# Altium integrated library XMOS xCORE General Purpose.IntLib: 46 symbols (part 4 of 4)
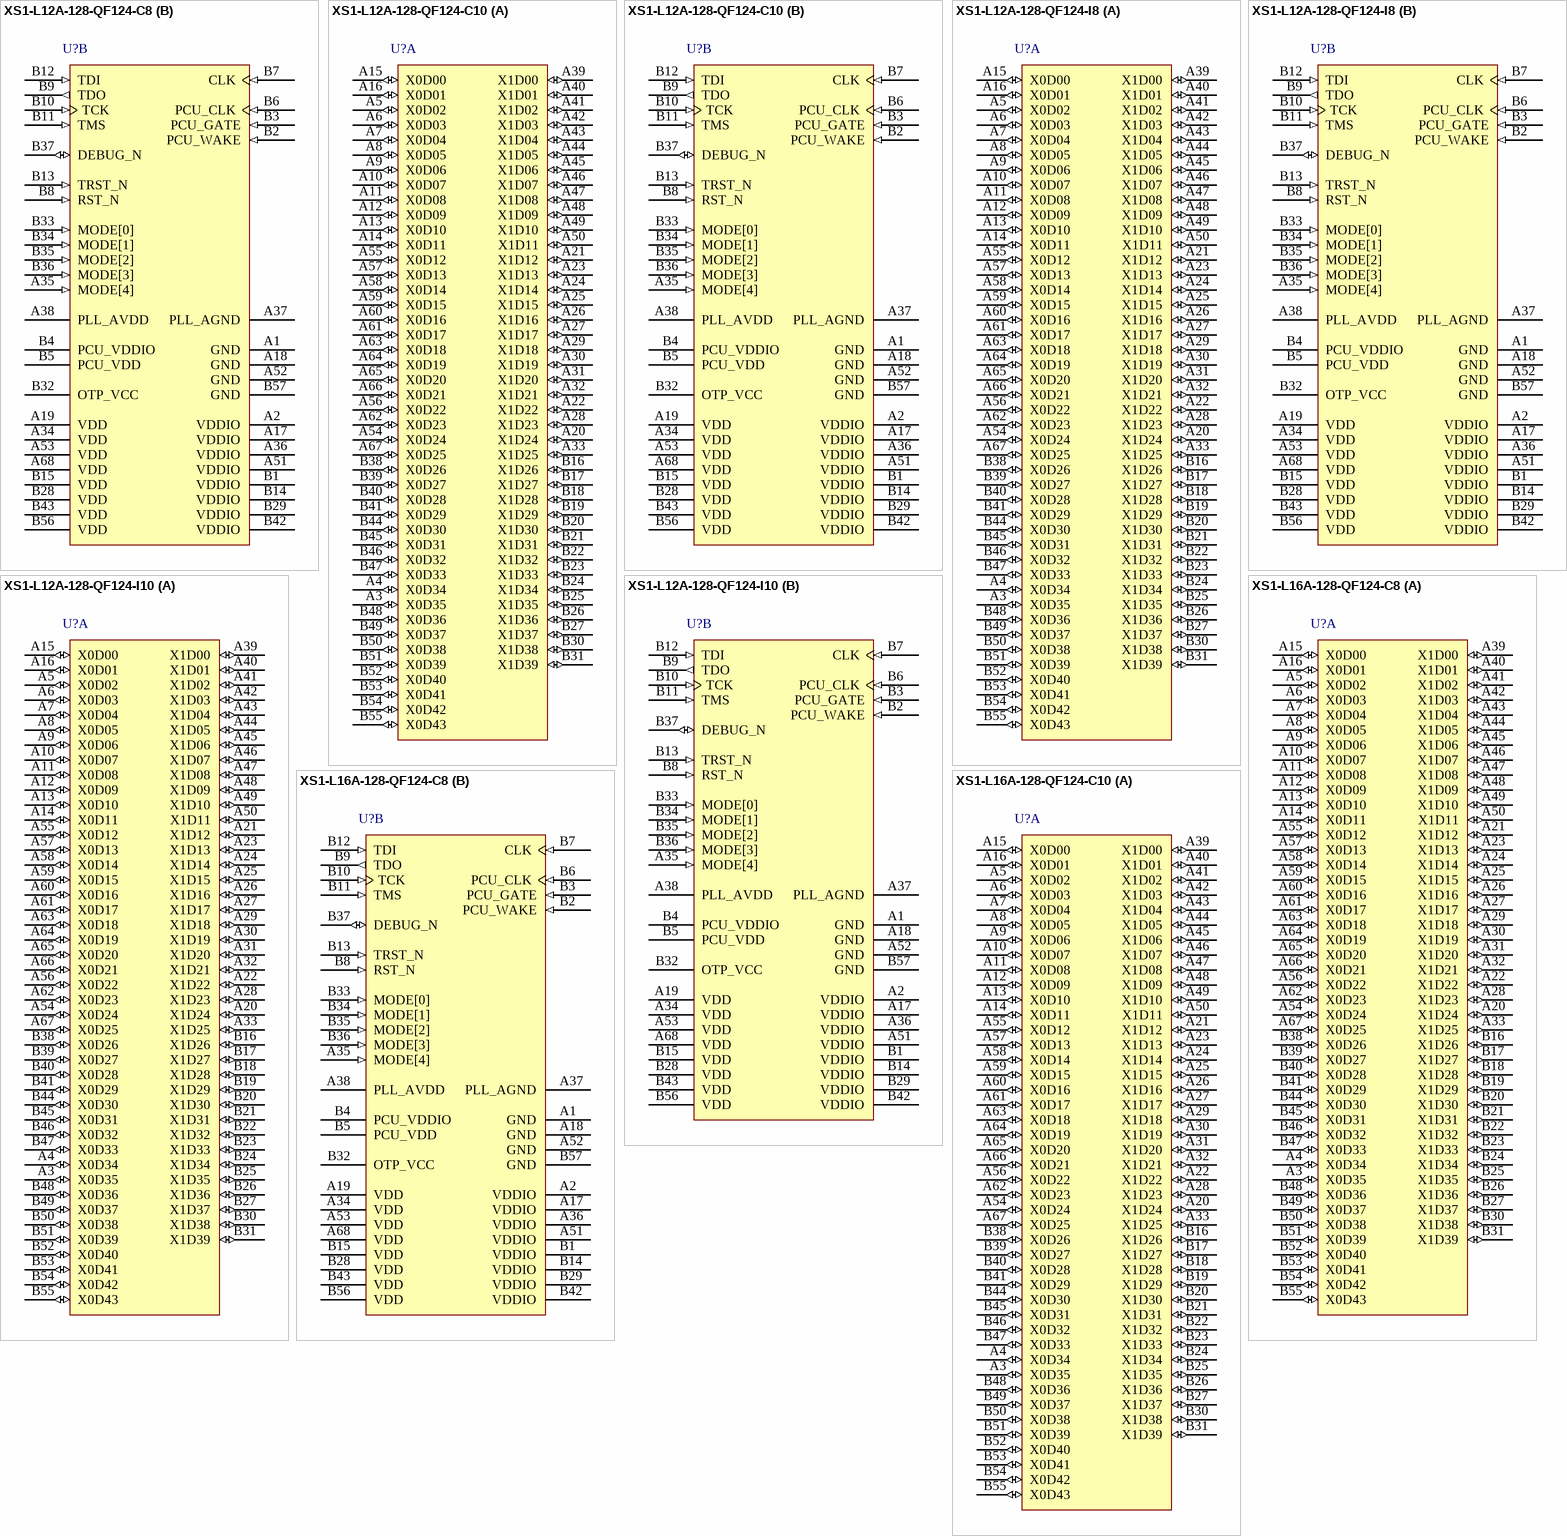
[diagram p13: symbols XS1-L12A-128-QF124-C8 to XS1-L16A-128-QF124-C10]

## XS1-L12A-128-QF124-C8
designator U?
12 Core XS1-L 32-bit Multicore Microcontroller, 84 I/O, 0 to 70 degC, 124-Pin QFN, Pb-Free, Tray; PartNumber: XS1-L12A-128-QF124-C8; Cores/Tiles: 12/2; I/O: 84; RAM: 128 kB; Speed Grade: 800 MIPS; DatasheetVersion: Rev. X7893; PackageReference: QFN-124; PackageDescription: 124-Pin Dual Row Quad Flat No Lead Package, Body 10 x 10 mm, Pitch 0.5 mm; Supplier 1: Digi-Key; Supplier Part Number 1: 880-1059-ND; Packing: Tray; Temperature Range: 0 to 70 degC; Mounting Technology: Surface Mount; ComponentLink1Description: Manufacturer URL; ComponentLink1URL: http://www.xmos.com/; ComponentLink2Description: Datasheet; ComponentLink2URL: https://www.xmos.com/zh/download/public/XS1-L12A-128-QF124-Datasheet(X7893C).pdf; ComponentLink3Description: Package Specification; ComponentLink3URL: https://www.xmos.com/zh/download/public/XS1-L16A-128-QF124-Datasheet%28X8006A%29.pdf
footprint XMOS-QFN-124_V (Double Row QFN, 124-Leads, Body 10.1x10.1mm, Pitch 0.5mm, Thermal Pad 2.8x2.8mm)
part A pins: A3 X0D35 (io), A4 X0D34 (io), A5 X0D02 (io), A6 X0D03 (io), A7 X0D04 (io), A8 X0D05 (io), A9 X0D06 (io), A10 X0D07 (io), A11 X0D08 (io), A12 X0D09 (io), A13 X0D10 (io), A14 X0D11 (io), A15 X0D00 (io), A16 X0D01 (io), A20 X1D24 (io), A21 X1D12 (io), A22 X1D22 (io), A23 X1D13 (io), A24 X1D14 (io), A25 X1D15 (io), A26 X1D16 (io), A27 X1D17 (io), A28 X1D23 (io), A29 X1D18 (io), A30 X1D19 (io), A31 X1D20 (io), A32 X1D21 (io), A33 X1D25 (io), A39 X1D00 (io), A40 X1D01 (io), A41 X1D02 (io), A42 X1D03 (io), A43 X1D04 (io), A44 X1D05 (io), A45 X1D06 (io), A46 X1D07 (io), A47 X1D08 (io), A48 X1D09 (io), A49 X1D10 (io), A50 X1D11 (io), A54 X0D24 (io), A55 X0D12 (io), A56 X0D22 (io), A57 X0D13 (io), A58 X0D14 (io), A59 X0D15 (io), A60 X0D16 (io), A61 X0D17 (io), A62 X0D23 (io), A63 X0D18 (io), A64 X0D19 (io), A65 X0D20 (io), A66 X0D21 (io), A67 X0D25 (io), B16 X1D26 (io), B17 X1D27 (io), B18 X1D28 (io), B19 X1D29 (io), B20 X1D30 (io), B21 X1D31 (io), B22 X1D32 (io), B23 X1D33 (io), B24 X1D34 (io), B25 X1D35 (io), B26 X1D36 (io), B27 X1D37 (io), B30 X1D38 (io), B31 X1D39 (io), B38 X0D26 (io), B39 X0D27 (io), B40 X0D28 (io), B41 X0D29 (io), B44 X0D30 (io), B45 X0D31 (io), B46 X0D32 (io), B47 X0D33 (io), B48 X0D36 (io), B49 X0D37 (io), B50 X0D38 (io), B51 X0D39 (io), B52 X0D40 (io), B53 X0D41 (io), B54 X0D42 (io), B55 X0D43 (io)
part B pins: A1 GND (power) "Digital ground", A2 VDDIO (power) "Digital I/O power", A17 VDDIO (power) "Digital I/O power", A18 GND (power) "Digital ground", A19 VDD (power) "Digital tile power", A34 VDD (power) "Digital tile power", A35 MODE[4] (in) "Boot mode select", A36 VDDIO (power) "Digital I/O power", A37 PLL_AGND (power) "Analog ground for PLL", A38 PLL_AVDD (power) "Analog PLL power", A51 VDDIO (power) "Digital I/O power", A52 GND (power) "Digital ground", A53 VDD (power) "Digital tile power", A68 VDD (power) "Digital tile power", B1 VDDIO (power) "Digital I/O power", B2 PCU_WAKE (in) "Wakeup reset", B3 PCU_GATE (in) "Power control gate control", B4 PCU_VDDIO (power) "PCU I/O supply", B5 PCU_VDD (power) "PCU tile power", B6 PCU_CLK (in) "Clock input", B7 CLK (in) "PLL reference clock", B8 RST_N (in) "Global reset input", B9 TDO (out) "Test data output", B10 TCK (in) "Test clock", B11 TMS (in) "Test mode select", B12 TDI (in) "Test data input", B13 TRST_N (in) "Test reset input", B14 VDDIO (power) "Digital I/O power", B15 VDD (power) "Digital tile power", B28 VDD (power) "Digital tile power", B29 VDDIO (power) "Digital I/O power", B32 OTP_VCC (power) "OTP power supply", B33 MODE[0] (in) "Boot mode select", B34 MODE[1] (in) "Boot mode select", B35 MODE[2] (in) "Boot mode select", B36 MODE[3] (in) "Boot mode select", B37 DEBUG_N (io) "Multi-chip debug", B42 VDDIO (power) "Digital I/O power", B43 VDD (power) "Digital tile power", B56 VDD (power) "Digital tile power", B57 GND (power) "Digital ground"

## XS1-L12A-128-QF124-C10
designator U?
12 Core XS1-L 32-bit Multicore Microcontroller, 84 I/O, 0 to 70 degC, 124-Pin QFN, Pb-Free, Tray; PartNumber: XS1-L12A-128-QF124-C10; Cores/Tiles: 12/2; I/O: 84; RAM: 128 kB; Speed Grade: 1000 MIPS; DatasheetVersion: Rev. X7893; PackageReference: QFN-124; PackageDescription: 124-Pin Dual Row Quad Flat No Lead Package, Body 10 x 10 mm, Pitch 0.5 mm; Supplier 1: Digi-Key; Supplier Part Number 1: 880-1053-ND; Supplier 2: Farnell; Supplier Part Number 2: 2356339; Supplier 3: Newark; Supplier Part Number 3: 07X2005; Packing: Tray; Temperature Range: 0 to 70 degC; Mounting Technology: Surface Mount; ComponentLink1Description: Manufacturer URL; ComponentLink1URL: http://www.xmos.com/; ComponentLink2Description: Datasheet; ComponentLink2URL: https://www.xmos.com/zh/download/public/XS1-L12A-128-QF124-Datasheet(X7893C).pdf; ComponentLink3Description: Package Specification; ComponentLink3URL: https://www.xmos.com/zh/download/public/XS1-L16A-128-QF124-Datasheet%28X8006A%29.pdf
footprint XMOS-QFN-124_V (Double Row QFN, 124-Leads, Body 10.1x10.1mm, Pitch 0.5mm, Thermal Pad 2.8x2.8mm)
part A pins: A3 X0D35 (io), A4 X0D34 (io), A5 X0D02 (io), A6 X0D03 (io), A7 X0D04 (io), A8 X0D05 (io), A9 X0D06 (io), A10 X0D07 (io), A11 X0D08 (io), A12 X0D09 (io), A13 X0D10 (io), A14 X0D11 (io), A15 X0D00 (io), A16 X0D01 (io), A20 X1D24 (io), A21 X1D12 (io), A22 X1D22 (io), A23 X1D13 (io), A24 X1D14 (io), A25 X1D15 (io), A26 X1D16 (io), A27 X1D17 (io), A28 X1D23 (io), A29 X1D18 (io), A30 X1D19 (io), A31 X1D20 (io), A32 X1D21 (io), A33 X1D25 (io), A39 X1D00 (io), A40 X1D01 (io), A41 X1D02 (io), A42 X1D03 (io), A43 X1D04 (io), A44 X1D05 (io), A45 X1D06 (io), A46 X1D07 (io), A47 X1D08 (io), A48 X1D09 (io), A49 X1D10 (io), A50 X1D11 (io), A54 X0D24 (io), A55 X0D12 (io), A56 X0D22 (io), A57 X0D13 (io), A58 X0D14 (io), A59 X0D15 (io), A60 X0D16 (io), A61 X0D17 (io), A62 X0D23 (io), A63 X0D18 (io), A64 X0D19 (io), A65 X0D20 (io), A66 X0D21 (io), A67 X0D25 (io), B16 X1D26 (io), B17 X1D27 (io), B18 X1D28 (io), B19 X1D29 (io), B20 X1D30 (io), B21 X1D31 (io), B22 X1D32 (io), B23 X1D33 (io), B24 X1D34 (io), B25 X1D35 (io), B26 X1D36 (io), B27 X1D37 (io), B30 X1D38 (io), B31 X1D39 (io), B38 X0D26 (io), B39 X0D27 (io), B40 X0D28 (io), B41 X0D29 (io), B44 X0D30 (io), B45 X0D31 (io), B46 X0D32 (io), B47 X0D33 (io), B48 X0D36 (io), B49 X0D37 (io), B50 X0D38 (io), B51 X0D39 (io), B52 X0D40 (io), B53 X0D41 (io), B54 X0D42 (io), B55 X0D43 (io)
part B pins: A1 GND (power) "Digital ground", A2 VDDIO (power) "Digital I/O power", A17 VDDIO (power) "Digital I/O power", A18 GND (power) "Digital ground", A19 VDD (power) "Digital tile power", A34 VDD (power) "Digital tile power", A35 MODE[4] (in) "Boot mode select", A36 VDDIO (power) "Digital I/O power", A37 PLL_AGND (power) "Analog ground for PLL", A38 PLL_AVDD (power) "Analog PLL power", A51 VDDIO (power) "Digital I/O power", A52 GND (power) "Digital ground", A53 VDD (power) "Digital tile power", A68 VDD (power) "Digital tile power", B1 VDDIO (power) "Digital I/O power", B2 PCU_WAKE (in) "Wakeup reset", B3 PCU_GATE (in) "Power control gate control", B4 PCU_VDDIO (power) "PCU I/O supply", B5 PCU_VDD (power) "PCU tile power", B6 PCU_CLK (in) "Clock input", B7 CLK (in) "PLL reference clock", B8 RST_N (in) "Global reset input", B9 TDO (out) "Test data output", B10 TCK (in) "Test clock", B11 TMS (in) "Test mode select", B12 TDI (in) "Test data input", B13 TRST_N (in) "Test reset input", B14 VDDIO (power) "Digital I/O power", B15 VDD (power) "Digital tile power", B28 VDD (power) "Digital tile power", B29 VDDIO (power) "Digital I/O power", B32 OTP_VCC (power) "OTP power supply", B33 MODE[0] (in) "Boot mode select", B34 MODE[1] (in) "Boot mode select", B35 MODE[2] (in) "Boot mode select", B36 MODE[3] (in) "Boot mode select", B37 DEBUG_N (io) "Multi-chip debug", B42 VDDIO (power) "Digital I/O power", B43 VDD (power) "Digital tile power", B56 VDD (power) "Digital tile power", B57 GND (power) "Digital ground"

## XS1-L12A-128-QF124-I8
designator U?
12 Core XS1-L 32-bit Multicore Microcontroller, 84 I/O, -40 to 85 degC, 124-Pin QFN, Pb-Free, Tray; PartNumber: XS1-L12A-128-QF124-I8; Cores/Tiles: 12/2; I/O: 84; RAM: 128 kB; Speed Grade: 800 MIPS; DatasheetVersion: Rev. X7893; PackageReference: QFN-124; PackageDescription: 124-Pin Dual Row Quad Flat No Lead Package, Body 10 x 10 mm, Pitch 0.5 mm; Supplier 1: Digi-Key; Supplier Part Number 1: XS1-L12A-128-QF124-I8-ND; Packing: Tray; Temperature Range: -40 to 85 degC; Mounting Technology: Surface Mount; ComponentLink1Description: Manufacturer URL; ComponentLink1URL: http://www.xmos.com/; ComponentLink2Description: Datasheet; ComponentLink2URL: https://www.xmos.com/zh/download/public/XS1-L12A-128-QF124-Datasheet(X7893C).pdf; ComponentLink3Description: Package Specification; ComponentLink3URL: https://www.xmos.com/zh/download/public/XS1-L16A-128-QF124-Datasheet%28X8006A%29.pdf
footprint XMOS-QFN-124_V (Double Row QFN, 124-Leads, Body 10.1x10.1mm, Pitch 0.5mm, Thermal Pad 2.8x2.8mm)
part A pins: A3 X0D35 (io), A4 X0D34 (io), A5 X0D02 (io), A6 X0D03 (io), A7 X0D04 (io), A8 X0D05 (io), A9 X0D06 (io), A10 X0D07 (io), A11 X0D08 (io), A12 X0D09 (io), A13 X0D10 (io), A14 X0D11 (io), A15 X0D00 (io), A16 X0D01 (io), A20 X1D24 (io), A21 X1D12 (io), A22 X1D22 (io), A23 X1D13 (io), A24 X1D14 (io), A25 X1D15 (io), A26 X1D16 (io), A27 X1D17 (io), A28 X1D23 (io), A29 X1D18 (io), A30 X1D19 (io), A31 X1D20 (io), A32 X1D21 (io), A33 X1D25 (io), A39 X1D00 (io), A40 X1D01 (io), A41 X1D02 (io), A42 X1D03 (io), A43 X1D04 (io), A44 X1D05 (io), A45 X1D06 (io), A46 X1D07 (io), A47 X1D08 (io), A48 X1D09 (io), A49 X1D10 (io), A50 X1D11 (io), A54 X0D24 (io), A55 X0D12 (io), A56 X0D22 (io), A57 X0D13 (io), A58 X0D14 (io), A59 X0D15 (io), A60 X0D16 (io), A61 X0D17 (io), A62 X0D23 (io), A63 X0D18 (io), A64 X0D19 (io), A65 X0D20 (io), A66 X0D21 (io), A67 X0D25 (io), B16 X1D26 (io), B17 X1D27 (io), B18 X1D28 (io), B19 X1D29 (io), B20 X1D30 (io), B21 X1D31 (io), B22 X1D32 (io), B23 X1D33 (io), B24 X1D34 (io), B25 X1D35 (io), B26 X1D36 (io), B27 X1D37 (io), B30 X1D38 (io), B31 X1D39 (io), B38 X0D26 (io), B39 X0D27 (io), B40 X0D28 (io), B41 X0D29 (io), B44 X0D30 (io), B45 X0D31 (io), B46 X0D32 (io), B47 X0D33 (io), B48 X0D36 (io), B49 X0D37 (io), B50 X0D38 (io), B51 X0D39 (io), B52 X0D40 (io), B53 X0D41 (io), B54 X0D42 (io), B55 X0D43 (io)
part B pins: A1 GND (power) "Digital ground", A2 VDDIO (power) "Digital I/O power", A17 VDDIO (power) "Digital I/O power", A18 GND (power) "Digital ground", A19 VDD (power) "Digital tile power", A34 VDD (power) "Digital tile power", A35 MODE[4] (in) "Boot mode select", A36 VDDIO (power) "Digital I/O power", A37 PLL_AGND (power) "Analog ground for PLL", A38 PLL_AVDD (power) "Analog PLL power", A51 VDDIO (power) "Digital I/O power", A52 GND (power) "Digital ground", A53 VDD (power) "Digital tile power", A68 VDD (power) "Digital tile power", B1 VDDIO (power) "Digital I/O power", B2 PCU_WAKE (in) "Wakeup reset", B3 PCU_GATE (in) "Power control gate control", B4 PCU_VDDIO (power) "PCU I/O supply", B5 PCU_VDD (power) "PCU tile power", B6 PCU_CLK (in) "Clock input", B7 CLK (in) "PLL reference clock", B8 RST_N (in) "Global reset input", B9 TDO (out) "Test data output", B10 TCK (in) "Test clock", B11 TMS (in) "Test mode select", B12 TDI (in) "Test data input", B13 TRST_N (in) "Test reset input", B14 VDDIO (power) "Digital I/O power", B15 VDD (power) "Digital tile power", B28 VDD (power) "Digital tile power", B29 VDDIO (power) "Digital I/O power", B32 OTP_VCC (power) "OTP power supply", B33 MODE[0] (in) "Boot mode select", B34 MODE[1] (in) "Boot mode select", B35 MODE[2] (in) "Boot mode select", B36 MODE[3] (in) "Boot mode select", B37 DEBUG_N (io) "Multi-chip debug", B42 VDDIO (power) "Digital I/O power", B43 VDD (power) "Digital tile power", B56 VDD (power) "Digital tile power", B57 GND (power) "Digital ground"

## XS1-L12A-128-QF124-I10
designator U?
12 Core XS1-L 32-bit Multicore Microcontroller, 84 I/O, -40 to 85 degC, 124-Pin QFN, Pb-Free, Tray; PartNumber: XS1-L12A-128-QF124-I10; Cores/Tiles: 12/2; I/O: 84; RAM: 128 kB; Speed Grade: 1000 MIPS; DatasheetVersion: Rev. X7893; PackageReference: QFN-124; PackageDescription: 124-Pin Dual Row Quad Flat No Lead Package, Body 10 x 10 mm, Pitch 0.5 mm; Supplier 1: Digi-Key; Supplier Part Number 1: XS1-L12A-128-QF124-I10-ND; Packing: Tray; Temperature Range: -40 to 85 degC; Mounting Technology: Surface Mount; ComponentLink1Description: Manufacturer URL; ComponentLink1URL: http://www.xmos.com/; ComponentLink2Description: Datasheet; ComponentLink2URL: https://www.xmos.com/zh/download/public/XS1-L12A-128-QF124-Datasheet(X7893C).pdf; ComponentLink3Description: Package Specification; ComponentLink3URL: https://www.xmos.com/zh/download/public/XS1-L16A-128-QF124-Datasheet%28X8006A%29.pdf
footprint XMOS-QFN-124_V (Double Row QFN, 124-Leads, Body 10.1x10.1mm, Pitch 0.5mm, Thermal Pad 2.8x2.8mm)
part A pins: A3 X0D35 (io), A4 X0D34 (io), A5 X0D02 (io), A6 X0D03 (io), A7 X0D04 (io), A8 X0D05 (io), A9 X0D06 (io), A10 X0D07 (io), A11 X0D08 (io), A12 X0D09 (io), A13 X0D10 (io), A14 X0D11 (io), A15 X0D00 (io), A16 X0D01 (io), A20 X1D24 (io), A21 X1D12 (io), A22 X1D22 (io), A23 X1D13 (io), A24 X1D14 (io), A25 X1D15 (io), A26 X1D16 (io), A27 X1D17 (io), A28 X1D23 (io), A29 X1D18 (io), A30 X1D19 (io), A31 X1D20 (io), A32 X1D21 (io), A33 X1D25 (io), A39 X1D00 (io), A40 X1D01 (io), A41 X1D02 (io), A42 X1D03 (io), A43 X1D04 (io), A44 X1D05 (io), A45 X1D06 (io), A46 X1D07 (io), A47 X1D08 (io), A48 X1D09 (io), A49 X1D10 (io), A50 X1D11 (io), A54 X0D24 (io), A55 X0D12 (io), A56 X0D22 (io), A57 X0D13 (io), A58 X0D14 (io), A59 X0D15 (io), A60 X0D16 (io), A61 X0D17 (io), A62 X0D23 (io), A63 X0D18 (io), A64 X0D19 (io), A65 X0D20 (io), A66 X0D21 (io), A67 X0D25 (io), B16 X1D26 (io), B17 X1D27 (io), B18 X1D28 (io), B19 X1D29 (io), B20 X1D30 (io), B21 X1D31 (io), B22 X1D32 (io), B23 X1D33 (io), B24 X1D34 (io), B25 X1D35 (io), B26 X1D36 (io), B27 X1D37 (io), B30 X1D38 (io), B31 X1D39 (io), B38 X0D26 (io), B39 X0D27 (io), B40 X0D28 (io), B41 X0D29 (io), B44 X0D30 (io), B45 X0D31 (io), B46 X0D32 (io), B47 X0D33 (io), B48 X0D36 (io), B49 X0D37 (io), B50 X0D38 (io), B51 X0D39 (io), B52 X0D40 (io), B53 X0D41 (io), B54 X0D42 (io), B55 X0D43 (io)
part B pins: A1 GND (power) "Digital ground", A2 VDDIO (power) "Digital I/O power", A17 VDDIO (power) "Digital I/O power", A18 GND (power) "Digital ground", A19 VDD (power) "Digital tile power", A34 VDD (power) "Digital tile power", A35 MODE[4] (in) "Boot mode select", A36 VDDIO (power) "Digital I/O power", A37 PLL_AGND (power) "Analog ground for PLL", A38 PLL_AVDD (power) "Analog PLL power", A51 VDDIO (power) "Digital I/O power", A52 GND (power) "Digital ground", A53 VDD (power) "Digital tile power", A68 VDD (power) "Digital tile power", B1 VDDIO (power) "Digital I/O power", B2 PCU_WAKE (in) "Wakeup reset", B3 PCU_GATE (in) "Power control gate control", B4 PCU_VDDIO (power) "PCU I/O supply", B5 PCU_VDD (power) "PCU tile power", B6 PCU_CLK (in) "Clock input", B7 CLK (in) "PLL reference clock", B8 RST_N (in) "Global reset input", B9 TDO (out) "Test data output", B10 TCK (in) "Test clock", B11 TMS (in) "Test mode select", B12 TDI (in) "Test data input", B13 TRST_N (in) "Test reset input", B14 VDDIO (power) "Digital I/O power", B15 VDD (power) "Digital tile power", B28 VDD (power) "Digital tile power", B29 VDDIO (power) "Digital I/O power", B32 OTP_VCC (power) "OTP power supply", B33 MODE[0] (in) "Boot mode select", B34 MODE[1] (in) "Boot mode select", B35 MODE[2] (in) "Boot mode select", B36 MODE[3] (in) "Boot mode select", B37 DEBUG_N (io) "Multi-chip debug", B42 VDDIO (power) "Digital I/O power", B43 VDD (power) "Digital tile power", B56 VDD (power) "Digital tile power", B57 GND (power) "Digital ground"

## XS1-L16A-128-QF124-C8
designator U?
16 Core XS1-L 32-bit Multicore Microcontroller, 84 I/O, 0 to 70 degC, 124-Pin QFN, Pb-Free, Tray; PartNumber: XS1-L16A-128-QF124-C8; Cores/Tiles: 16/2; I/O: 84; RAM: 128 kB; Speed Grade: 800 MIPS; DatasheetVersion: Rev. X8006; PackageReference: QFN-124; PackageDescription: 124-Pin Dual Row Quad Flat No Lead Package, Body 10 x 10 mm, Pitch 0.5 mm; Supplier 1: Digi-Key; Supplier Part Number 1: 880-1004-ND; Packing: Tray; Temperature Range: 0 to 70 degC; Mounting Technology: Surface Mount; ComponentLink1Description: Manufacturer URL; ComponentLink1URL: http://www.xmos.com/; ComponentLink2Description: Datasheet; ComponentLink2URL: https://www.xmos.com/zh/download/public/XS1-L16A-128-QF124-Datasheet(X8006A).pdf; ComponentLink3Description: Package Specification; ComponentLink3URL: https://www.xmos.com/zh/download/public/XS1-L16A-128-QF124-Datasheet%28X8006A%29.pdf
footprint XMOS-QFN-124_V (Double Row QFN, 124-Leads, Body 10.1x10.1mm, Pitch 0.5mm, Thermal Pad 2.8x2.8mm)
part A pins: A3 X0D35 (io), A4 X0D34 (io), A5 X0D02 (io), A6 X0D03 (io), A7 X0D04 (io), A8 X0D05 (io), A9 X0D06 (io), A10 X0D07 (io), A11 X0D08 (io), A12 X0D09 (io), A13 X0D10 (io), A14 X0D11 (io), A15 X0D00 (io), A16 X0D01 (io), A20 X1D24 (io), A21 X1D12 (io), A22 X1D22 (io), A23 X1D13 (io), A24 X1D14 (io), A25 X1D15 (io), A26 X1D16 (io), A27 X1D17 (io), A28 X1D23 (io), A29 X1D18 (io), A30 X1D19 (io), A31 X1D20 (io), A32 X1D21 (io), A33 X1D25 (io), A39 X1D00 (io), A40 X1D01 (io), A41 X1D02 (io), A42 X1D03 (io), A43 X1D04 (io), A44 X1D05 (io), A45 X1D06 (io), A46 X1D07 (io), A47 X1D08 (io), A48 X1D09 (io), A49 X1D10 (io), A50 X1D11 (io), A54 X0D24 (io), A55 X0D12 (io), A56 X0D22 (io), A57 X0D13 (io), A58 X0D14 (io), A59 X0D15 (io), A60 X0D16 (io), A61 X0D17 (io), A62 X0D23 (io), A63 X0D18 (io), A64 X0D19 (io), A65 X0D20 (io), A66 X0D21 (io), A67 X0D25 (io), B16 X1D26 (io), B17 X1D27 (io), B18 X1D28 (io), B19 X1D29 (io), B20 X1D30 (io), B21 X1D31 (io), B22 X1D32 (io), B23 X1D33 (io), B24 X1D34 (io), B25 X1D35 (io), B26 X1D36 (io), B27 X1D37 (io), B30 X1D38 (io), B31 X1D39 (io), B38 X0D26 (io), B39 X0D27 (io), B40 X0D28 (io), B41 X0D29 (io), B44 X0D30 (io), B45 X0D31 (io), B46 X0D32 (io), B47 X0D33 (io), B48 X0D36 (io), B49 X0D37 (io), B50 X0D38 (io), B51 X0D39 (io), B52 X0D40 (io), B53 X0D41 (io), B54 X0D42 (io), B55 X0D43 (io)
part B pins: A1 GND (power) "Digital ground", A2 VDDIO (power) "Digital I/O power", A17 VDDIO (power) "Digital I/O power", A18 GND (power) "Digital ground", A19 VDD (power) "Digital tile power", A34 VDD (power) "Digital tile power", A35 MODE[4] (in) "Boot mode select", A36 VDDIO (power) "Digital I/O power", A37 PLL_AGND (power) "Analog ground for PLL", A38 PLL_AVDD (power) "Analog PLL power", A51 VDDIO (power) "Digital I/O power", A52 GND (power) "Digital ground", A53 VDD (power) "Digital tile power", A68 VDD (power) "Digital tile power", B1 VDDIO (power) "Digital I/O power", B2 PCU_WAKE (in) "Wakeup reset", B3 PCU_GATE (in) "Power control gate control", B4 PCU_VDDIO (power) "PCU I/O supply", B5 PCU_VDD (power) "PCU tile power", B6 PCU_CLK (in) "Clock input", B7 CLK (in) "PLL reference clock", B8 RST_N (in) "Global reset input", B9 TDO (out) "Test data output", B10 TCK (in) "Test clock", B11 TMS (in) "Test mode select", B12 TDI (in) "Test data input", B13 TRST_N (in) "Test reset input", B14 VDDIO (power) "Digital I/O power", B15 VDD (power) "Digital tile power", B28 VDD (power) "Digital tile power", B29 VDDIO (power) "Digital I/O power", B32 OTP_VCC (power) "OTP power supply", B33 MODE[0] (in) "Boot mode select", B34 MODE[1] (in) "Boot mode select", B35 MODE[2] (in) "Boot mode select", B36 MODE[3] (in) "Boot mode select", B37 DEBUG_N (io) "Multi-chip debug", B42 VDDIO (power) "Digital I/O power", B43 VDD (power) "Digital tile power", B56 VDD (power) "Digital tile power", B57 GND (power) "Digital ground"

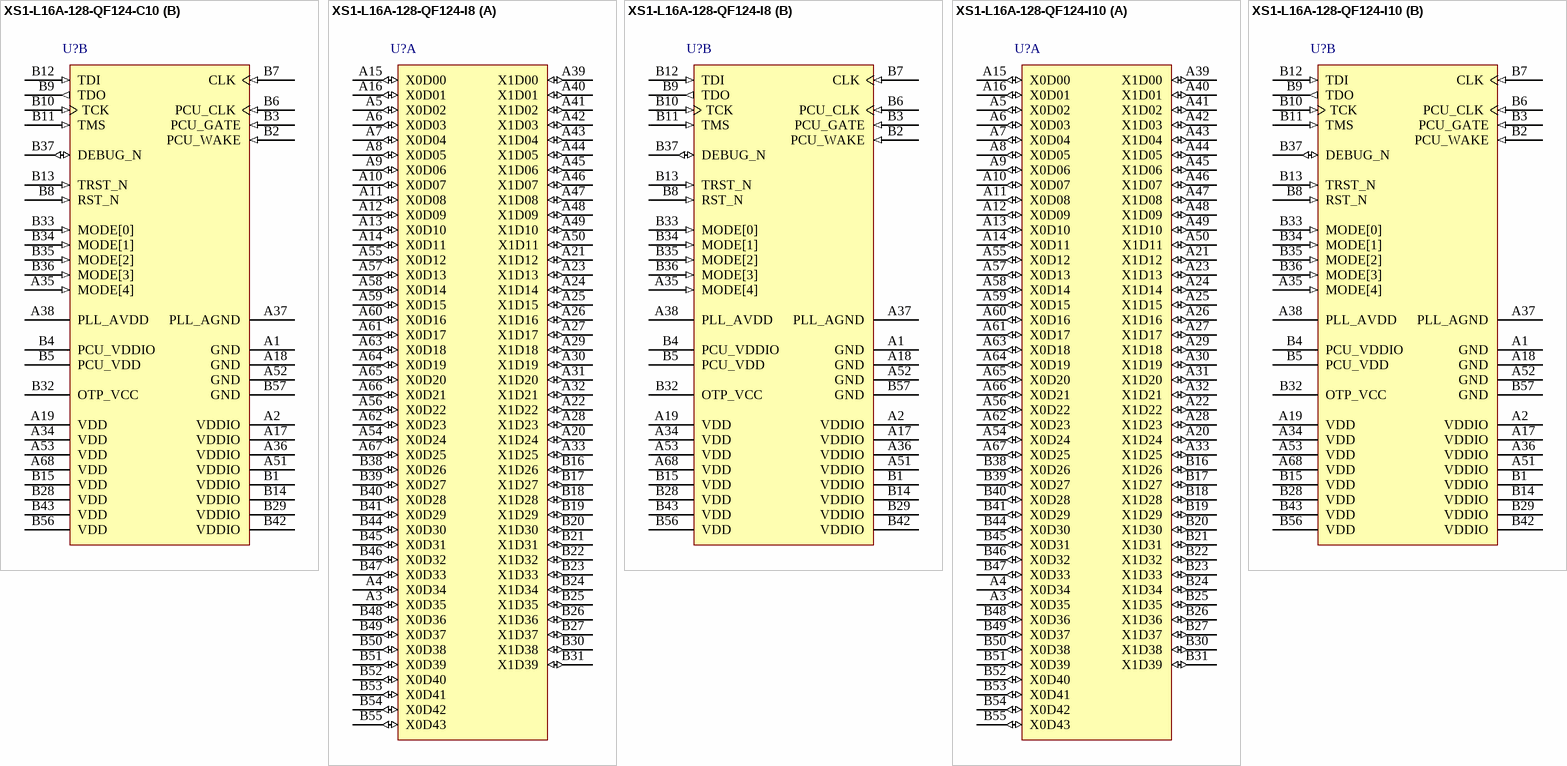
[diagram p10: symbols XS1-L16A-128-QF124-C10 to XS1-L16A-128-QF124-I10]

## XS1-L16A-128-QF124-C10
designator U?
16 Core XS1-L 32-bit Multicore Microcontroller, 84 I/O, 0 to 70 degC, 124-Pin QFN, Pb-Free, Tray; PartNumber: XS1-L16A-128-QF124-C10; Cores/Tiles: 16/2; I/O: 84; RAM: 128 kB; Speed Grade: 1000 MIPS; DatasheetVersion: Rev. X8006; PackageReference: QFN-124; PackageDescription: 124-Pin Dual Row Quad Flat No Lead Package, Body 10 x 10 mm, Pitch 0.5 mm; Supplier 1: Digi-Key; Supplier Part Number 1: 880-1020-ND; Supplier 2: Farnell; Supplier Part Number 2: 2356341; Supplier 3: Newark; Supplier Part Number 3: 07X2006; Packing: Tray; Temperature Range: 0 to 70 degC; Mounting Technology: Surface Mount; ComponentLink1Description: Manufacturer URL; ComponentLink1URL: http://www.xmos.com/; ComponentLink2Description: Datasheet; ComponentLink2URL: https://www.xmos.com/zh/download/public/XS1-L16A-128-QF124-Datasheet(X8006A).pdf; ComponentLink3Description: Package Specification; ComponentLink3URL: https://www.xmos.com/zh/download/public/XS1-L16A-128-QF124-Datasheet%28X8006A%29.pdf
footprint XMOS-QFN-124_V (Double Row QFN, 124-Leads, Body 10.1x10.1mm, Pitch 0.5mm, Thermal Pad 2.8x2.8mm)
part A pins: A3 X0D35 (io), A4 X0D34 (io), A5 X0D02 (io), A6 X0D03 (io), A7 X0D04 (io), A8 X0D05 (io), A9 X0D06 (io), A10 X0D07 (io), A11 X0D08 (io), A12 X0D09 (io), A13 X0D10 (io), A14 X0D11 (io), A15 X0D00 (io), A16 X0D01 (io), A20 X1D24 (io), A21 X1D12 (io), A22 X1D22 (io), A23 X1D13 (io), A24 X1D14 (io), A25 X1D15 (io), A26 X1D16 (io), A27 X1D17 (io), A28 X1D23 (io), A29 X1D18 (io), A30 X1D19 (io), A31 X1D20 (io), A32 X1D21 (io), A33 X1D25 (io), A39 X1D00 (io), A40 X1D01 (io), A41 X1D02 (io), A42 X1D03 (io), A43 X1D04 (io), A44 X1D05 (io), A45 X1D06 (io), A46 X1D07 (io), A47 X1D08 (io), A48 X1D09 (io), A49 X1D10 (io), A50 X1D11 (io), A54 X0D24 (io), A55 X0D12 (io), A56 X0D22 (io), A57 X0D13 (io), A58 X0D14 (io), A59 X0D15 (io), A60 X0D16 (io), A61 X0D17 (io), A62 X0D23 (io), A63 X0D18 (io), A64 X0D19 (io), A65 X0D20 (io), A66 X0D21 (io), A67 X0D25 (io), B16 X1D26 (io), B17 X1D27 (io), B18 X1D28 (io), B19 X1D29 (io), B20 X1D30 (io), B21 X1D31 (io), B22 X1D32 (io), B23 X1D33 (io), B24 X1D34 (io), B25 X1D35 (io), B26 X1D36 (io), B27 X1D37 (io), B30 X1D38 (io), B31 X1D39 (io), B38 X0D26 (io), B39 X0D27 (io), B40 X0D28 (io), B41 X0D29 (io), B44 X0D30 (io), B45 X0D31 (io), B46 X0D32 (io), B47 X0D33 (io), B48 X0D36 (io), B49 X0D37 (io), B50 X0D38 (io), B51 X0D39 (io), B52 X0D40 (io), B53 X0D41 (io), B54 X0D42 (io), B55 X0D43 (io)
part B pins: A1 GND (power) "Digital ground", A2 VDDIO (power) "Digital I/O power", A17 VDDIO (power) "Digital I/O power", A18 GND (power) "Digital ground", A19 VDD (power) "Digital tile power", A34 VDD (power) "Digital tile power", A35 MODE[4] (in) "Boot mode select", A36 VDDIO (power) "Digital I/O power", A37 PLL_AGND (power) "Analog ground for PLL", A38 PLL_AVDD (power) "Analog PLL power", A51 VDDIO (power) "Digital I/O power", A52 GND (power) "Digital ground", A53 VDD (power) "Digital tile power", A68 VDD (power) "Digital tile power", B1 VDDIO (power) "Digital I/O power", B2 PCU_WAKE (in) "Wakeup reset", B3 PCU_GATE (in) "Power control gate control", B4 PCU_VDDIO (power) "PCU I/O supply", B5 PCU_VDD (power) "PCU tile power", B6 PCU_CLK (in) "Clock input", B7 CLK (in) "PLL reference clock", B8 RST_N (in) "Global reset input", B9 TDO (out) "Test data output", B10 TCK (in) "Test clock", B11 TMS (in) "Test mode select", B12 TDI (in) "Test data input", B13 TRST_N (in) "Test reset input", B14 VDDIO (power) "Digital I/O power", B15 VDD (power) "Digital tile power", B28 VDD (power) "Digital tile power", B29 VDDIO (power) "Digital I/O power", B32 OTP_VCC (power) "OTP power supply", B33 MODE[0] (in) "Boot mode select", B34 MODE[1] (in) "Boot mode select", B35 MODE[2] (in) "Boot mode select", B36 MODE[3] (in) "Boot mode select", B37 DEBUG_N (io) "Multi-chip debug", B42 VDDIO (power) "Digital I/O power", B43 VDD (power) "Digital tile power", B56 VDD (power) "Digital tile power", B57 GND (power) "Digital ground"

## XS1-L16A-128-QF124-I8
designator U?
16 Core XS1-L 32-bit Multicore Microcontroller, 84 I/O, -40 to 85 degC, 124-Pin QFN, Pb-Free, Tray; PartNumber: XS1-L16A-128-QF124-I8; Cores/Tiles: 16/2; I/O: 84; RAM: 128 kB; Speed Grade: 800 MIPS; DatasheetVersion: Rev. X8006; PackageReference: QFN-124; PackageDescription: 124-Pin Dual Row Quad Flat No Lead Package, Body 10 x 10 mm, Pitch 0.5 mm; Supplier 1: Digi-Key; Supplier Part Number 1: 880-1005-ND; Packing: Tray; Temperature Range: -40 to 85 degC; Mounting Technology: Surface Mount; ComponentLink1Description: Manufacturer URL; ComponentLink1URL: http://www.xmos.com/; ComponentLink2Description: Datasheet; ComponentLink2URL: https://www.xmos.com/zh/download/public/XS1-L16A-128-QF124-Datasheet(X8006A).pdf; ComponentLink3Description: Package Specification; ComponentLink3URL: https://www.xmos.com/zh/download/public/XS1-L16A-128-QF124-Datasheet%28X8006A%29.pdf
footprint XMOS-QFN-124_V (Double Row QFN, 124-Leads, Body 10.1x10.1mm, Pitch 0.5mm, Thermal Pad 2.8x2.8mm)
part A pins: A3 X0D35 (io), A4 X0D34 (io), A5 X0D02 (io), A6 X0D03 (io), A7 X0D04 (io), A8 X0D05 (io), A9 X0D06 (io), A10 X0D07 (io), A11 X0D08 (io), A12 X0D09 (io), A13 X0D10 (io), A14 X0D11 (io), A15 X0D00 (io), A16 X0D01 (io), A20 X1D24 (io), A21 X1D12 (io), A22 X1D22 (io), A23 X1D13 (io), A24 X1D14 (io), A25 X1D15 (io), A26 X1D16 (io), A27 X1D17 (io), A28 X1D23 (io), A29 X1D18 (io), A30 X1D19 (io), A31 X1D20 (io), A32 X1D21 (io), A33 X1D25 (io), A39 X1D00 (io), A40 X1D01 (io), A41 X1D02 (io), A42 X1D03 (io), A43 X1D04 (io), A44 X1D05 (io), A45 X1D06 (io), A46 X1D07 (io), A47 X1D08 (io), A48 X1D09 (io), A49 X1D10 (io), A50 X1D11 (io), A54 X0D24 (io), A55 X0D12 (io), A56 X0D22 (io), A57 X0D13 (io), A58 X0D14 (io), A59 X0D15 (io), A60 X0D16 (io), A61 X0D17 (io), A62 X0D23 (io), A63 X0D18 (io), A64 X0D19 (io), A65 X0D20 (io), A66 X0D21 (io), A67 X0D25 (io), B16 X1D26 (io), B17 X1D27 (io), B18 X1D28 (io), B19 X1D29 (io), B20 X1D30 (io), B21 X1D31 (io), B22 X1D32 (io), B23 X1D33 (io), B24 X1D34 (io), B25 X1D35 (io), B26 X1D36 (io), B27 X1D37 (io), B30 X1D38 (io), B31 X1D39 (io), B38 X0D26 (io), B39 X0D27 (io), B40 X0D28 (io), B41 X0D29 (io), B44 X0D30 (io), B45 X0D31 (io), B46 X0D32 (io), B47 X0D33 (io), B48 X0D36 (io), B49 X0D37 (io), B50 X0D38 (io), B51 X0D39 (io), B52 X0D40 (io), B53 X0D41 (io), B54 X0D42 (io), B55 X0D43 (io)
part B pins: A1 GND (power) "Digital ground", A2 VDDIO (power) "Digital I/O power", A17 VDDIO (power) "Digital I/O power", A18 GND (power) "Digital ground", A19 VDD (power) "Digital tile power", A34 VDD (power) "Digital tile power", A35 MODE[4] (in) "Boot mode select", A36 VDDIO (power) "Digital I/O power", A37 PLL_AGND (power) "Analog ground for PLL", A38 PLL_AVDD (power) "Analog PLL power", A51 VDDIO (power) "Digital I/O power", A52 GND (power) "Digital ground", A53 VDD (power) "Digital tile power", A68 VDD (power) "Digital tile power", B1 VDDIO (power) "Digital I/O power", B2 PCU_WAKE (in) "Wakeup reset", B3 PCU_GATE (in) "Power control gate control", B4 PCU_VDDIO (power) "PCU I/O supply", B5 PCU_VDD (power) "PCU tile power", B6 PCU_CLK (in) "Clock input", B7 CLK (in) "PLL reference clock", B8 RST_N (in) "Global reset input", B9 TDO (out) "Test data output", B10 TCK (in) "Test clock", B11 TMS (in) "Test mode select", B12 TDI (in) "Test data input", B13 TRST_N (in) "Test reset input", B14 VDDIO (power) "Digital I/O power", B15 VDD (power) "Digital tile power", B28 VDD (power) "Digital tile power", B29 VDDIO (power) "Digital I/O power", B32 OTP_VCC (power) "OTP power supply", B33 MODE[0] (in) "Boot mode select", B34 MODE[1] (in) "Boot mode select", B35 MODE[2] (in) "Boot mode select", B36 MODE[3] (in) "Boot mode select", B37 DEBUG_N (io) "Multi-chip debug", B42 VDDIO (power) "Digital I/O power", B43 VDD (power) "Digital tile power", B56 VDD (power) "Digital tile power", B57 GND (power) "Digital ground"

## XS1-L16A-128-QF124-I10
designator U?
16 Core XS1-L 32-bit Multicore Microcontroller, 84 I/O, -40 to 85 degC, 124-Pin QFN, Pb-Free, Tray; PartNumber: XS1-L16A-128-QF124-I10; Cores/Tiles: 16/2; I/O: 84; RAM: 128 kB; Speed Grade: 1000 MIPS; DatasheetVersion: Rev. X8006; PackageReference: QFN-124; PackageDescription: 124-Pin Dual Row Quad Flat No Lead Package, Body 10 x 10 mm, Pitch 0.5 mm; Supplier 1: Digi-Key; Supplier Part Number 1: 880-1031-ND; Packing: Tray; Temperature Range: -40 to 85 degC; Mounting Technology: Surface Mount; ComponentLink1Description: Manufacturer URL; ComponentLink1URL: http://www.xmos.com/; ComponentLink2Description: Datasheet; ComponentLink2URL: https://www.xmos.com/zh/download/public/XS1-L16A-128-QF124-Datasheet(X8006A).pdf; ComponentLink3Description: Package Specification; ComponentLink3URL: https://www.xmos.com/zh/download/public/XS1-L16A-128-QF124-Datasheet%28X8006A%29.pdf
footprint XMOS-QFN-124_V (Double Row QFN, 124-Leads, Body 10.1x10.1mm, Pitch 0.5mm, Thermal Pad 2.8x2.8mm)
part A pins: A3 X0D35 (io), A4 X0D34 (io), A5 X0D02 (io), A6 X0D03 (io), A7 X0D04 (io), A8 X0D05 (io), A9 X0D06 (io), A10 X0D07 (io), A11 X0D08 (io), A12 X0D09 (io), A13 X0D10 (io), A14 X0D11 (io), A15 X0D00 (io), A16 X0D01 (io), A20 X1D24 (io), A21 X1D12 (io), A22 X1D22 (io), A23 X1D13 (io), A24 X1D14 (io), A25 X1D15 (io), A26 X1D16 (io), A27 X1D17 (io), A28 X1D23 (io), A29 X1D18 (io), A30 X1D19 (io), A31 X1D20 (io), A32 X1D21 (io), A33 X1D25 (io), A39 X1D00 (io), A40 X1D01 (io), A41 X1D02 (io), A42 X1D03 (io), A43 X1D04 (io), A44 X1D05 (io), A45 X1D06 (io), A46 X1D07 (io), A47 X1D08 (io), A48 X1D09 (io), A49 X1D10 (io), A50 X1D11 (io), A54 X0D24 (io), A55 X0D12 (io), A56 X0D22 (io), A57 X0D13 (io), A58 X0D14 (io), A59 X0D15 (io), A60 X0D16 (io), A61 X0D17 (io), A62 X0D23 (io), A63 X0D18 (io), A64 X0D19 (io), A65 X0D20 (io), A66 X0D21 (io), A67 X0D25 (io), B16 X1D26 (io), B17 X1D27 (io), B18 X1D28 (io), B19 X1D29 (io), B20 X1D30 (io), B21 X1D31 (io), B22 X1D32 (io), B23 X1D33 (io), B24 X1D34 (io), B25 X1D35 (io), B26 X1D36 (io), B27 X1D37 (io), B30 X1D38 (io), B31 X1D39 (io), B38 X0D26 (io), B39 X0D27 (io), B40 X0D28 (io), B41 X0D29 (io), B44 X0D30 (io), B45 X0D31 (io), B46 X0D32 (io), B47 X0D33 (io), B48 X0D36 (io), B49 X0D37 (io), B50 X0D38 (io), B51 X0D39 (io), B52 X0D40 (io), B53 X0D41 (io), B54 X0D42 (io), B55 X0D43 (io)
part B pins: A1 GND (power) "Digital ground", A2 VDDIO (power) "Digital I/O power", A17 VDDIO (power) "Digital I/O power", A18 GND (power) "Digital ground", A19 VDD (power) "Digital tile power", A34 VDD (power) "Digital tile power", A35 MODE[4] (in) "Boot mode select", A36 VDDIO (power) "Digital I/O power", A37 PLL_AGND (power) "Analog ground for PLL", A38 PLL_AVDD (power) "Analog PLL power", A51 VDDIO (power) "Digital I/O power", A52 GND (power) "Digital ground", A53 VDD (power) "Digital tile power", A68 VDD (power) "Digital tile power", B1 VDDIO (power) "Digital I/O power", B2 PCU_WAKE (in) "Wakeup reset", B3 PCU_GATE (in) "Power control gate control", B4 PCU_VDDIO (power) "PCU I/O supply", B5 PCU_VDD (power) "PCU tile power", B6 PCU_CLK (in) "Clock input", B7 CLK (in) "PLL reference clock", B8 RST_N (in) "Global reset input", B9 TDO (out) "Test data output", B10 TCK (in) "Test clock", B11 TMS (in) "Test mode select", B12 TDI (in) "Test data input", B13 TRST_N (in) "Test reset input", B14 VDDIO (power) "Digital I/O power", B15 VDD (power) "Digital tile power", B28 VDD (power) "Digital tile power", B29 VDDIO (power) "Digital I/O power", B32 OTP_VCC (power) "OTP power supply", B33 MODE[0] (in) "Boot mode select", B34 MODE[1] (in) "Boot mode select", B35 MODE[2] (in) "Boot mode select", B36 MODE[3] (in) "Boot mode select", B37 DEBUG_N (io) "Multi-chip debug", B42 VDDIO (power) "Digital I/O power", B43 VDD (power) "Digital tile power", B56 VDD (power) "Digital tile power", B57 GND (power) "Digital ground"